# EAGLE library part HEADER-1X12 (library NU-Smarticle v2)
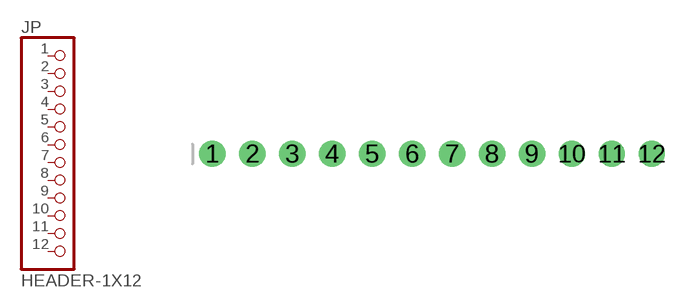
[diagram p1: symbol with the pads of 1X12_ROUND; footprint 1X12_ROUND]

Designator prefix JP

## HEADER-1X12  [1X12_ROUND]
1  1  pas
2  2  pas
3  3  pas
4  4  pas
5  5  pas
6  6  pas
7  7  pas
8  8  pas
9  9  pas
10  10  pas
11  11  pas
12  12  pas

## Footprint 1X12_ROUND (pad centres in mm)
drill 1 pad 1.676: 1 -13.97,0; 2 -11.43,0; 3 -8.89,0; 4 -6.35,0; 5 -3.81,0; 6 -1.27,0; 7 1.27,0; 8 3.81,0; 9 6.35,0; 10 8.89,0; 11 11.43,0; 12 13.97,0